# Altium footprint library smdUtilities.PcbLib: 59 footprints (part 4 of 4)
Each footprint in its own frame and in the unit in brackets; x right, y up, seen from the top. Pads: shape width x height; smd on the part's side, far side on the other; paste and mask are expansions set on the pad; w line width, h text height; cw(c..) or ccw(c..) is an arc to the next point about the centre after c.
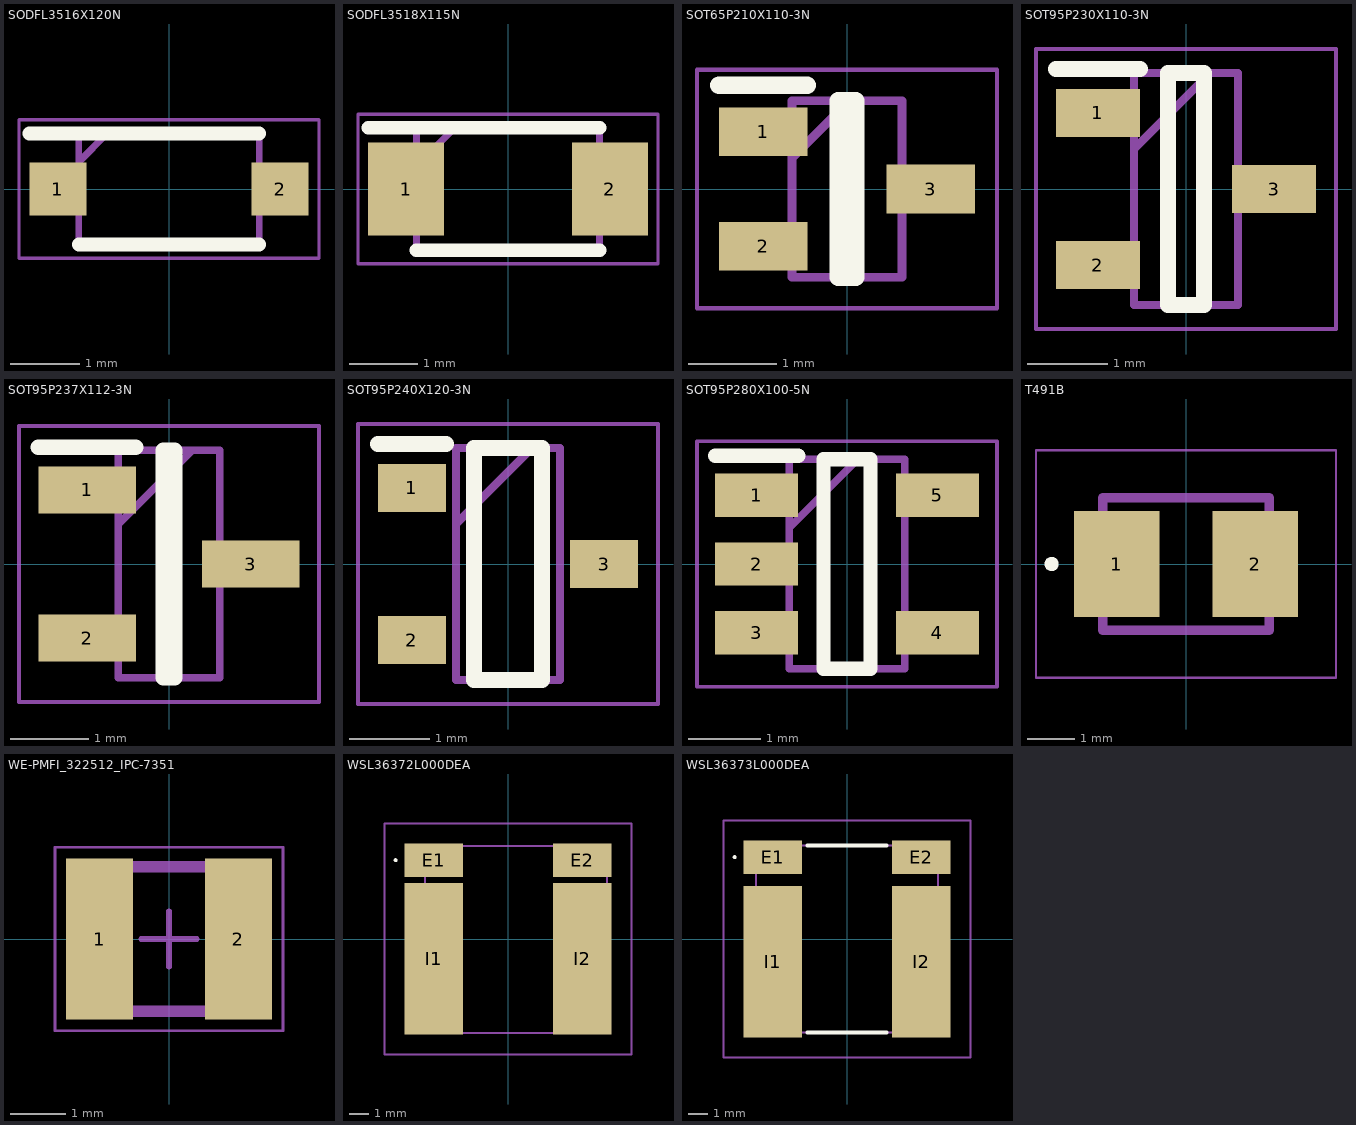
[diagram p3: the footprints below, top view; thin cyan lines are the x and y axes]

## SODFL3516X120N [mm]
pads (2):
  rect 0.82x0.76 smd: 1(-1.6,0) 2(1.6,0)
Top Overlay:
  lines w0.2: -2.01,0.8 1.3,0.8 ; -1.3,-0.8 1.3,-0.8
Mechanical 13:
  lines w0.1: -1.3,0.39 -0.89,0.8 ; -1.3,-0.8 -1.3,0.8 1.3,0.8 1.3,-0.8 -1.3,-0.8
Mechanical 15:
  lines w0.05: -2.16,-1 -2.16,1 2.16,1 2.16,-1 -2.16,-1
3D body "BZT52H-B18,115.stp": height 1.1, standoff 0, extent -1.751,-0.805 1.749,0.795

## SODFL3518X115N [mm]
pads (2):
  rect 1.12x1.37 smd: 1(-1.5,0) 2(1.5,0)
Top Overlay:
  lines w0.2: -2.06,0.9 1.35,0.9 ; -1.35,-0.9 1.35,-0.9
Mechanical 13:
  lines w0.1: -1.35,0.34 -0.79,0.9 ; -1.35,-0.9 1.35,-0.9 1.35,0.9 -1.35,0.9 -1.35,-0.9
Mechanical 15:
  lines w0.05: -2.21,-1.1 2.21,-1.1 2.21,1.1 -2.21,1.1 -2.21,-1.1
3D body "BZT52HC12WF-7.stp": height 1.15, standoff 0, extent -1.75,-0.9 1.75,0.9

## SOT65P210X110-3N [mm]
pads (3):
  rect 1x0.55 smd: 1(-0.95,0.65) 2(-0.95,-0.65) 3(0.95,0)
Top Overlay:
  lines w0.2: -1.45,1.175 -0.45,1.175 ; -0.1,-1 0.1,-1 0.1,1 -0.1,1 -0.1,-1
Mechanical 13:
  lines w0.1: -0.625,0.35 0.025,1 ; -0.625,-1 0.625,-1 0.625,1 -0.625,1 -0.625,-1
Mechanical 15:
  lines w0.05: -1.7,-1.35 1.7,-1.35 1.7,1.35 -1.7,1.35 -1.7,-1.35
3D body "BAS70-04W,115.stp": height 0.95, standoff 0, extent -1.052,-1.049 1.048,1.051

## SOT95P230X110-3N [mm]
pads (3):
  rect 1.05x0.6 smd: 1(-1.1,0.95) 2(-1.1,-0.95) 3(1.1,0)
Top Overlay:
  lines w0.2: -1.625,1.5 -0.575,1.5 ; -0.225,-1.45 -0.225,1.45 0.225,1.45 0.225,-1.45 -0.225,-1.45
Mechanical 13:
  lines w0.1: -0.65,0.5 0.3,1.45 ; -0.65,-1.45 -0.65,1.45 0.65,1.45 0.65,-1.45 -0.65,-1.45
Mechanical 15:
  lines w0.05: -1.875,-1.75 -1.875,1.75 1.875,1.75 1.875,-1.75 -1.875,-1.75
3D body "PMEG2005CT,215.stp": height 0.95, standoff 0, extent -1.201,-1.448 1.199,1.452

## SOT95P237X112-3N [mm]
pads (3):
  rect 1.25x0.6 smd: 1(-1.05,0.95) 2(-1.05,-0.95) 3(1.05,0)
Top Overlay:
  lines w0.2: -1.675,1.5 -0.425,1.5 ; -0.075,-1.46 -0.075,1.46 0.075,1.46 0.075,-1.46 -0.075,-1.46
Mechanical 13:
  lines w0.1: -0.65,0.51 0.3,1.46 ; -0.65,-1.46 -0.65,1.46 0.65,1.46 0.65,-1.46 -0.65,-1.46
Mechanical 15:
  lines w0.05: -1.925,-1.77 -1.925,1.77 1.925,1.77 1.925,-1.77 -1.925,-1.77
3D body "TLV76050DBZR.stp": height 1, standoff 0, extent -1.27,-1.46 1.27,1.46

## SOT95P240X120-3N [mm]
pads (3):
  rect 0.85x0.6 smd: 1(-1.2,0.95) 2(-1.2,-0.95) 3(1.2,0)
Top Overlay:
  lines w0.2: -1.625,1.5 -0.775,1.5 ; -0.425,-1.45 -0.425,1.45 0.425,1.45 0.425,-1.45 -0.425,-1.45
Mechanical 13:
  lines w0.1: -0.65,0.5 0.3,1.45 ; -0.65,-1.45 -0.65,1.45 0.65,1.45 0.65,-1.45 -0.65,-1.45
Mechanical 15:
  lines w0.05: -1.875,-1.75 -1.875,1.75 1.875,1.75 1.875,-1.75 -1.875,-1.75
3D body "DMP31D1U-7.stp": height 1.2, standoff 0, extent -1.2,-1.45 1.2,1.45

## SOT95P280X100-5N [mm]
pads (5):
  rect 1.15x0.6 smd: 1(-1.25,0.95) 2(-1.25,0) 3(-1.25,-0.95) 4(1.25,-0.95) 5(1.25,0.95)
Top Overlay:
  lines w0.2: -1.825,1.5 -0.675,1.5 ; -0.325,-1.45 0.325,-1.45 0.325,1.45 -0.325,1.45 -0.325,-1.45
Mechanical 13:
  lines w0.1: -0.8,0.5 0.15,1.45 ; -0.8,-1.45 0.8,-1.45 0.8,1.45 -0.8,1.45 -0.8,-1.45
Mechanical 15:
  lines w0.05: -2.075,-1.7 2.075,-1.7 2.075,1.7 -2.075,1.7 -2.075,-1.7
3D body "QS5K2TR.stp": height 1, standoff 0, extent -1.4,-1.45 1.4,1.45

## T491B [mm]
pads (2):
  rect 1.8x2.23 smd: 1(-1.46,0) 2(1.46,0)
Top Overlay:
  circle w0.2: c-2.831,0 r0.05
Mechanical 13:
  lines w0.2: -1.75,-1.4 -1.75,1.4 1.75,1.4 1.75,-1.4 -1.75,-1.4
Mechanical 15:
  lines w0.05: -3.16,-2.4 -3.16,2.4 3.16,2.4 3.16,-2.4 -3.16,-2.4
3D body "T491B225K025AT.stp": height 2.1, standoff 0, extent -1.85,-1.5 1.85,1.5

## WE-PMFI_322512_IPC-7351 [mm] "SMT Power Inductor, body 3.20 x 2.50 mm"
height 1.2
pads (2):
  rect 1.2x2.9 smd: 1(-1.25,0) 2(1.25,0)
Top Courtyard:
  lines w0.05: -2.05,-1.65 2.05,-1.65 2.05,1.65 -2.05,1.65 -2.05,-1.65
Top 3D Body:
  lines w0.1: -1.6,-1.25 -1.6,1.25 1.6,1.25 1.6,-1.25 -1.6,-1.25
Top Assembly:
  lines w0.1: -1.7,-1.35 1.7,-1.35 1.7,1.35 -1.7,1.35 -1.7,-1.35
Top Designator:
  text ".Designator" at -3.647,-0.357 h1
Top Component Center:
  lines w0.1: -0.5,0 0.5,0 ; 0,-0.5 0,0.5
3D body "74479332257xxx_322512.stp": height 1.2, standoff 0, extent -1.6,-1.25 1.6,1.25

## WSL36372L000DEA [mm]
pads (4):
  rect 2.95x1.68 smd: E1(-3.735,3.962) E2(3.735,3.962)
  rect 2.95x7.62 smd: I1(-3.735,-0.993) I2(3.735,-0.993)
Top Overlay:
  lines w0.1: -5.7,3.962 cw(c-5.65,3.962) -5.601,3.962 cw(c-5.65,3.962) -5.7,3.962
Mechanical 13:
  lines w0.1: -4.17,-4.732 4.97,-4.732 4.97,4.668 -4.17,4.668 -4.17,-4.732
Mechanical 15:
  lines w0.1: -6.21,-5.803 6.21,-5.803 6.21,5.803 -6.21,5.803 -6.21,-5.803
3D body "WSL36372L000DEA.stp": height 0.64, standoff 0, extent -4.972,-4.668 4.172,4.73

## WSL36373L000DEA [mm]
pads (4):
  rect 2.95x1.68 smd: E1(-3.735,4.115) E2(3.735,4.115)
  rect 2.95x7.62 smd: I1(-3.735,-1.145) I2(3.735,-1.145)
Top Overlay:
  lines w0.1: -5.7,4.115 cw(c-5.65,4.115) -5.6,4.115 cw(c-5.65,4.115) -5.7,4.115
  lines w0.2: -2,-4.7 2,-4.7 ; -2,4.7 2,4.7
Mechanical 13:
  lines w0.1: -4.57,-4.7 4.57,-4.7 4.57,4.7 -4.57,4.7 -4.57,-4.7
Mechanical 15:
  lines w0.1: -6.21,-5.955 6.21,-5.955 6.21,5.955 -6.21,5.955 -6.21,-5.955
3D body "WSL36373L000DEA.stp": height 0.64, standoff 0, extent -4.572,-4.575 4.572,4.823